# Altium footprint library VBlib_Diodes.PcbLib: 30 footprints (part 2 of 2)
Each footprint in its own frame and in the unit in brackets; x right, y up, seen from the top. Pads: shape width x height; smd on the part's side, far side on the other; paste and mask are expansions set on the pad; w line width, h text height; cw(c..) or ccw(c..) is an arc to the next point about the centre after c.
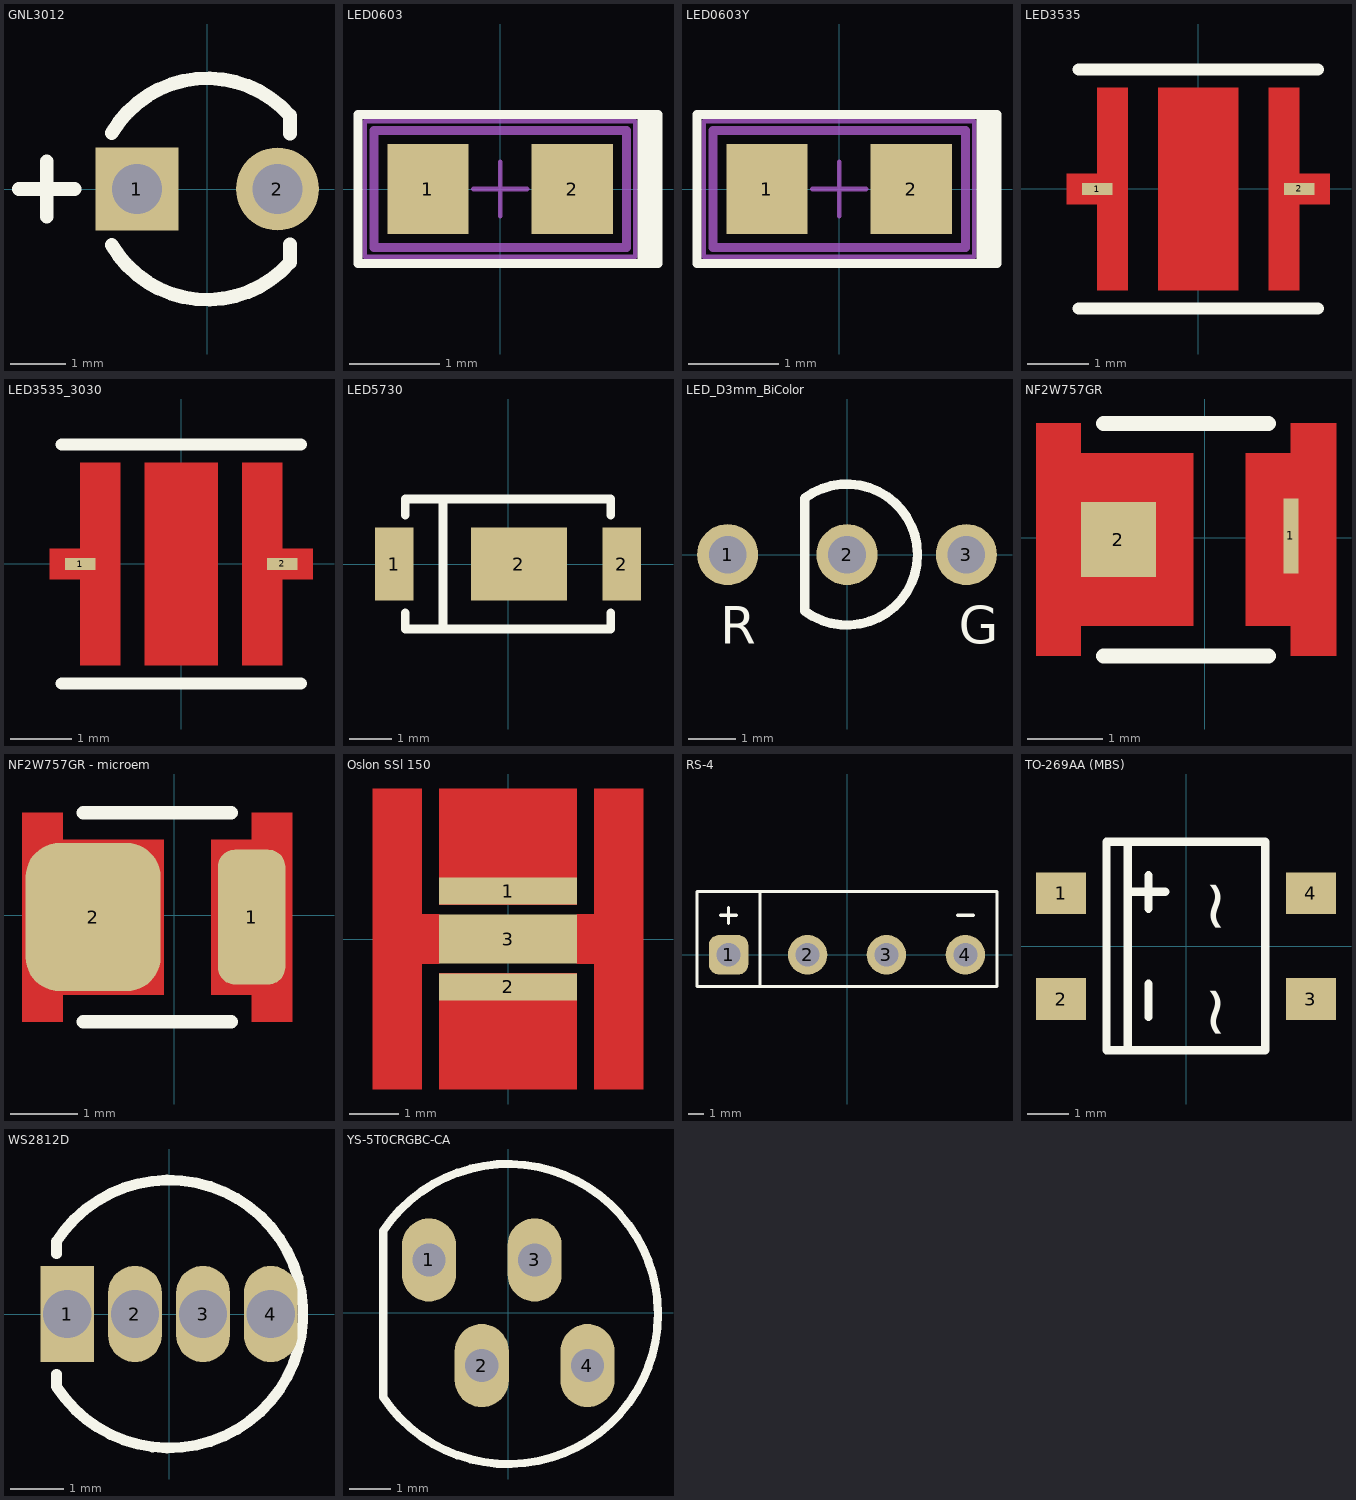
[diagram p1: the footprints below, top view; thin cyan lines are the x and y axes]

## GNL3012 [mm] "LED, d=3mm"
height 5.5
pads (2):
  rect 1.5x1.5 hole 0.9: 1(-1.27,0)
  round 1.5 hole 0.9: 2(1.27,0)
Top Overlay:
  lines w0.25: -3.4,0 -2.4,0 ; -2.9,-0.5 -2.9,0.5 ; -1.724,-1.014 ccw(c0,0) 1.5,-1.323 ; -1.724,1.014 cw(c0,0) 1.5,1.323
  lines w0.254: 1.5,-1.323 1.5,-1 ; 1.5,1 1.5,1.323
3D body "LED_3mm_without_pins.STEP": height 5.3, standoff 0, extent -1.95,-1.947 1.603,1.947
3D body: height 0, standoff -2.5, extent 1.02,-0.25 1.52,0.25
3D body: height 0, standoff -2.5, extent -1.52,-0.25 -1.02,0.25

## LED0603 [mm] "LED chip, EIA 0603, Metric 1608, Body 1.6x0.8mm, IPC Medium Density"
height 0.55
pads (2):
  rect 0.9x1 smd: 1(-0.8,0) 2(0.8,0)
Top Overlay:
  lines w0.1: 1.575,-0.825 1.575,0.825 ; 1.65,-0.825 1.65,0.825 ; -1.575,-0.825 1.75,-0.825 1.75,0.825 -1.575,0.825 -1.575,-0.825
Mechanical 14:
  lines w0.1: -1.4,-0.65 -1.4,0.65 1.4,0.65 1.4,-0.65 -1.4,-0.65
Mechanical 15:
  lines w0.05: -0.3,0 0.3,0 ; 0,-0.3 0,0.3 ; -1.5,-0.75 1.5,-0.75 1.5,0.75 -1.5,0.75 -1.5,-0.75
3D body "LTST-C190GKT.STEP": height 0.9, standoff 0, extent -0.85,-0.45 0.85,0.45

## LED0603Y [mm] "LED chip yellow, EIA 0603, Metric 1608, Body 1.6x0.8mm, IPC Medium Density"
height 0.55
pads (2):
  rect 0.9x1 smd: 1(-0.8,0) 2(0.8,0)
Top Overlay:
  lines w0.1: 1.575,-0.825 1.575,0.825 ; 1.65,-0.825 1.65,0.825 ; -1.575,-0.825 1.75,-0.825 1.75,0.825 -1.575,0.825 -1.575,-0.825
Mechanical 14:
  lines w0.1: -1.4,-0.65 -1.4,0.65 1.4,0.65 1.4,-0.65 -1.4,-0.65
Mechanical 15:
  lines w0.05: -0.3,0 0.3,0 ; 0,-0.3 0,0.3 ; -1.5,-0.75 1.5,-0.75 1.5,0.75 -1.5,0.75 -1.5,-0.75
3D body "LED_0603_Y.STEP": height 0.6, standoff 0, extent -0.8,-0.4 0.8,0.4

## LED3535 [mm] "Площадка под светодиоды типоразмера 3535"
height 5
pads (2):
  rect 0.5x0.2 smd: 1(-1.65,0) 2(1.65,0)
Top Layer:
  region: 1.65,-1.65 1.15,-1.65 1.15,1.65 1.65,1.65 1.65,0.25 2.15,0.25 2.15,-0.25 1.65,-0.25
  region: -0.65,1.65 0.65,1.65 0.65,-1.65 -0.65,-1.65
  region: -1.65,1.65 -1.15,1.65 -1.15,-1.65 -1.65,-1.65 -1.65,-0.25 -2.15,-0.25 -2.15,0.25 -1.65,0.25
Top Overlay:
  lines w0.2: -1.95,-1.95 1.95,-1.95 ; -1.95,1.95 1.95,1.95
Top Paste:
  region: 1.6,-1.6 1.2,-1.6 1.2,1.6 1.6,1.6 1.6,0.2 2.1,0.2 2.1,-0.2 1.6,-0.2
  region: -1.6,1.6 -1.2,1.6 -1.2,-1.6 -1.6,-1.6 -1.6,-0.2 -2.1,-0.2 -2.1,0.2 -1.6,0.2
  region: -0.6,1.6 0.6,1.6 0.6,-1.6 -0.6,-1.6
Top Solder:
  region: 1.05,-1.75 1.05,1.75 1.75,1.75 1.75,0.35 2.25,0.35 2.25,-0.35 1.75,-0.35 1.75,-1.75
  region: -1.05,1.75 -1.05,-1.75 -1.75,-1.75 -1.75,-0.35 -2.25,-0.35 -2.25,0.35 -1.75,0.35 -1.75,1.75
  region: -0.75,1.75 0.75,1.75 0.75,-1.75 -0.75,-1.75
  lines w0.2: -2.65,1.15 -2.05,1.15 ; -2.35,0.85 -2.35,1.45
3D body "Seoul SZ5.STEP": height 2.36, standoff 0, extent -1.725,-1.725 1.725,1.725

## LED3535_3030 [mm]
height 5
pads (2):
  rect 0.5x0.2 smd: 1(-1.65,0) 2(1.65,0)
Top Layer:
  region: -1.65,1.65 -1,1.65 -1,-1.65 -1.65,-1.65 -1.65,-0.25 -2.15,-0.25 -2.15,0.25 -1.65,0.25
  region: -0.6,1.65 0.6,1.65 0.6,-1.65 -0.6,-1.65
  region: 1.65,-1.65 1,-1.65 1,1.65 1.65,1.65 1.65,0.25 2.15,0.25 2.15,-0.25 1.65,-0.25
Top Overlay:
  lines w0.2: -1.95,-1.95 1.95,-1.95 ; -1.95,1.95 1.95,1.95
Top Paste:
  region: -0.6,1.6 0.6,1.6 0.6,-1.6 -0.6,-1.6
  region: -1.6,1.6 -1.2,1.6 -1.2,-1.6 -1.6,-1.6 -1.6,-0.2 -2.1,-0.2 -2.1,0.2 -1.6,0.2
  region: 1.6,-1.6 1.2,-1.6 1.2,1.6 1.6,1.6 1.6,0.2 2.1,0.2 2.1,-0.2 1.6,-0.2
Top Solder:
  region: -0.7,1.75 0.7,1.75 0.7,-1.75 -0.7,-1.75
  region: -0.9,1.75 -0.9,-1.75 -1.75,-1.75 -1.75,-0.35 -2.25,-0.35 -2.25,0.35 -1.75,0.35 -1.75,1.75
  region: 0.9,-1.75 0.9,1.75 1.75,1.75 1.75,0.35 2.25,0.35 2.25,-0.35 1.75,-0.35 1.75,-1.75
  lines w0.2: -2.65,1.15 -2.05,1.15 ; -2.35,0.85 -2.35,1.45
3D body "Seoul SZ5.STEP": height 2.36, standoff 0, extent -1.725,-1.725 1.725,1.725

## LED5730 [mm] "Площадка, для светодиода в корпусе 5730"
height 1
pads (3):
  rect 0.9x1.7 smd: 1(-2.667,0) 2(2.667,0)
  rect 2.25x1.7 smd: 2(0.254,0)
Top Overlay:
  lines w0.2: -2.413,-1.143 -2.413,-1.524 2.413,-1.524 2.413,-1.143 ; -2.413,1.143 -2.413,1.524 2.413,1.524 2.413,1.143 ; -1.524,-1.524 -1.524,1.524
3D body "5730.STEP": height 0.95, standoff 0, extent -2.817,-1.525 2.783,1.475

## LED_D3mm_BiColor [mm]
pads (3):
  round 1.3 hole 0.8: 1(-2.54,0) 2(0,0) 3(2.54,0)
Top Overlay:
  lines w0.2: -0.9,-1.2 ccw(c0,0) -0.9,1.2 -0.9,-1.2
  text "G" at 2.38,-1.9 h0.8
  text "R" at -2.7,-1.9 h0.8
3D body "3mmBiColorLED.STEP": height 9.21, standoff -0.83, extent -2.794,-2.025 2.794,2.025

## NF2W757GR [mm] "Nichia LED Light Footprint"
height 0.65
pads (2):
  rect 0.2x1 smd: 1(1.15,0.025)
  rect 1x1 smd: 2(-1.15,-0.025)
Top Layer:
  region: -2.25,1.525 -1.65,1.525 -1.65,1.125 -0.15,1.125 -0.15,-1.175 -1.65,-1.175 -1.65,-1.575 -2.25,-1.575
  region: 0.55,1.125 0.55,-1.175 1.15,-1.175 1.15,-1.575 1.75,-1.575 1.75,1.525 1.15,1.525 1.15,1.125
Top Overlay:
  lines w0.2: -1.35,-1.575 0.85,-1.575 ; -1.35,1.525 0.85,1.525
Top Paste:
  region: 0.75,-1.025 0.9,-1.025 0.9,-1.175 1.15,-1.175 1.15,-1.575 1.75,-1.575 1.75,1.525 1.15,1.525 1.15,1.125 0.9,1.125 0.9,0.975 0.75,0.975
  region: -2.25,1.525 -1.65,1.525 -1.65,1.125 -1.4,1.125 -1.4,0.975 -0.202,0.975 -0.2,-1.025 -1.4,-1.025 -1.4,-1.175 -1.65,-1.175 -1.65,-1.575 -2.25,-1.575
Top Solder:
  region: -2.15,-1.925 -1.85,-1.925 -1.85,-2.225 -2.15,-2.225
3D body "Nichia 757.STEP": height 0.64, standoff -0.01, extent -1.75,-1.525 1.25,1.475

## NF2W757GR - microem [mm] "Nichia LED Light Footprint"
height 0.65
pads (2):
  rrect50% 1x2 smd: 1(1.15,-0.025)
  rrect50% 2x2.2 smd: 2(-1.2,-0.025)
Top Layer:
  region: -2.25,1.525 -1.65,1.525 -1.65,1.125 -0.15,1.125 -0.15,-1.175 -1.65,-1.175 -1.65,-1.575 -2.25,-1.575
  region: 0.55,1.125 0.55,-1.175 1.15,-1.175 1.15,-1.575 1.75,-1.575 1.75,1.525 1.15,1.525 1.15,1.125
Top Overlay:
  lines w0.2: -1.35,-1.575 0.85,-1.575 ; -1.35,1.525 0.85,1.525
Top Solder:
  region: -2.15,-1.925 -1.85,-1.925 -1.85,-2.225 -2.15,-2.225
3D body "Nichia 757.STEP": height 0.64, standoff -0.01, extent -1.75,-1.525 1.25,1.475

## Oslon SSl 150 [mm] "OSRAM Oslon SSL 150 LED Footprint"
height 1.58
pads (3):
  rect 2.8x0.55 smd mask+0: 1(0,0.975) 2(0,-0.975)
  rect 2.8x1 smd mask+0: 3(0,0)
Top Layer:
  region: -1.4,-3.05 -1.4,-0.7 1.4,-0.7 1.4,-3.05
  region: -1.4,0.7 -1.4,3.05 1.4,3.05 1.4,0.7
  region: 1.4,0.5 1.75,0.5 1.75,3.05 2.75,3.05 2.75,-3.05 1.75,-3.05 1.75,-0.5 1.4,-0.5
  region: -1.4,-0.5 -1.75,-0.5 -1.75,-3.05 -2.75,-3.05 -2.75,3.05 -1.75,3.05 -1.75,0.5 -1.4,0.5
Top Solder:
  region: -1.075,-1.675 -0.775,-1.675 -0.775,-1.975 -1.075,-1.975
3D body "LED Uni-Color Blue 451nm LD CQDP-2U3U-W5-1 oslon ssl 150.STEP": height 1.61, standoff 0, extent -1.5,-1.5 1.5,1.5

## RS-4 [mm] "Площадка под мост типа RS406L"
height 16
pads (4):
  rrect50% 2.5x2.5 hole 1.5: 1(-7.5,0)
  round 2.5 hole 1.5: 2(-2.5,0) 3(2.5,0) 4(7.5,0)
Top Overlay:
  lines w0.2: -8,2.5 -7,2.5 ; -7.5,2 -7.5,3 ; -5.5,-2 -5.5,4 ; 7,2.5 8,2.5 ; -9.5,-2 -9.5,4 9.5,4 9.5,-2 -9.5,-2
3D body "KBL-1.step": height 15.85, standoff -4.4, extent -9.5,-2.125 9.5,4.125

## TO-269AA (MBS) [mm]
pads (4):
  rect 1.2x1 smd: 1(-3,1.27) 2(-3,-1.27) 3(3,-1.27) 4(3,1.27)
Top Overlay:
  lines w0.2: -1.402,-2.5 -1.402,2.5 ; -1.3,1.3 -0.5,1.3 ; -0.9,-1.7 -0.9,-0.9 ; -0.9,0.9 -0.9,1.7 ; -1.91,-2.5 -1.91,2.5 1.9,2.5 1.9,-2.5 -1.91,-2.5
  text "~" at 0.2,-0.9 h1.2
  text "~" at 0.2,1.64 h1.2
3D body "TO-269AA (MBS).STEP": height 2.8, standoff 0, extent -3.347,-2.43 3.353,2.52

## WS2812D [mm]
height 8
pads (4):
  rect 1x1.8 hole 0.9: 1(-1.9,0)
  oval 1x1.8 hole 0.9: 2(-0.635,0) 3(0.635,0) 4(1.9,0)
Top Overlay:
  lines w0.2: -2.103,1.352 cw(c0,0) -2.102,-1.353 ; -2.1,-1.352 -2.1,-1.125 ; -2.1,1.125 -2.1,1.352
3D body: height 12, standoff 0, extent -4,-3.997 4,3.997

## YS-5T0CRGBC-CA [mm] "RGB светодиод c общим анодом (ф.SHEN ZHEN YS LED LIGHTING) www.yeshanled.com"
height 10
pads (4):
  oval 1.3x2 hole 0.8: 1(-1.905,1.27) 2(-0.635,-1.27) 3(0.635,1.27) 4(1.905,-1.27)
Top Overlay:
  lines w0.2: -3.005,-2.03 ccw(c-0.005,-0.03) -3.005,1.97 -3.005,-2.03